# Altium schematic symbol library Charger.SchLib: 2 symbols
Pins are listed as number, name and electrical type; pins without a type are passive.

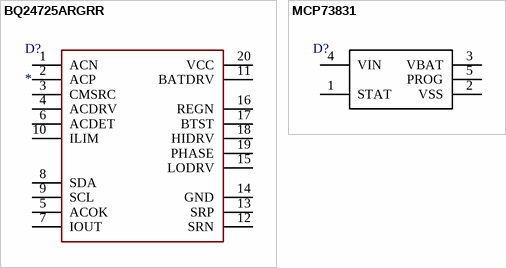
[diagram p0: symbols BQ24725ARGRR to MCP73831]

## BQ24725ARGRR
designator D?
bq24725A 1-4 Cell Li+ Battery SMBus Charge Controller with N-Channel Power MOSFET  Selector
pins: 1 ACN, 2 ACP, 3 CMSRC, 4 ACDRV, 5 ACOK, 6 ACDET, 7 IOUT, 8 SDA, 9 SCL, 10 ILIM, 11 BATDRV, 12 SRN, 13 SRP, 14 GND, 15 LODRV, 16 REGN, 17 BTST, 18 HIDRV, 19 PHASE, 20 VCC

## MCP73831
designator D?  (value not drawn)
footprint SOT23-5 (SOT23, 5-Leads, Body 2,90x2,70mm, Pitch 0,95mm, IPC Medium Density)
pins: 1 STAT, 2 VSS, 3 VBAT, 4 VIN, 5 PROG